# EAGLE library part SN65LVDS9638 (library ic-TI)
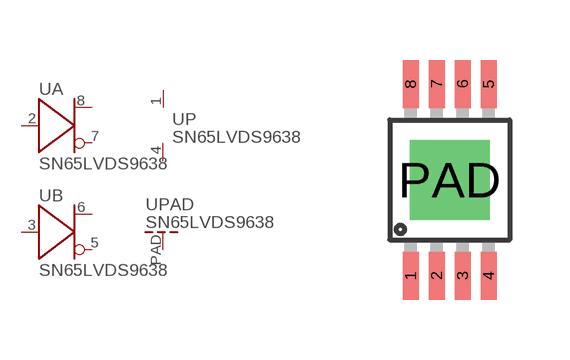
[diagram p17: symbol with the pads of MSOP8-PAD; footprint MSOP8-PAD]

Designator prefix U; gates A=LVDS_TRANSMITTER B=LVDS_TRANSMITTER P=LOGIC_PWR PAD=LOGIC_PWR_PAD

## SN65LVDS9638DGN  [MSOP8-PAD]
1  P:VCC
2  A:A
3  B:A
4  P:GND
5  B:Z
6  B:Y
7  A:Z
8  A:Y
PAD  PAD:PAD

## Footprint MSOP8-PAD (pad centres in mm)
smd 0.4 x 1.2: 1 -0.975,-2.4; 2 -0.325,-2.4; 3 0.325,-2.4; 4 0.975,-2.4; 5 0.975,2.4; 6 0.325,2.4; 7 -0.325,2.4; 8 -0.975,2.4
drill 1.3 pad 2 square: PAD 0,0